# Altium schematic symbol library GSB4211311WEU.SchLib: 1 symbol
Pins are listed as number, name and electrical type; pins without a type are passive.

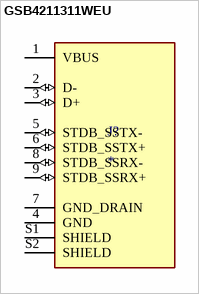
[diagram p0: symbol GSB4211311WEU]

## GSB4211311WEU
designator J?
USB 3.2 GEN 2, Type B, Receptacle, Right Angle Standard, 9 Pins, Shell Kink with Nickel Plating, 30Î¼in Gold, Dip 2.8mm, Blue Housing, Tray Packaging; MF: Amphenol; MP: GSB4211311WEU; SnapEDA_Link: https://www.snapeda.com/parts/GSB4211311WEU/Amphenol/view-part/?ref=snap; Package: None; Value: *; Check_prices: https://www.snapeda.com/parts/GSB4211311WEU/Amphenol/view-part/?ref=eda
footprint AMPHENOL_GSB4211311WEU
pins: 1 VBUS (power), 2 D- (io), 3 D+ (io), 4 GND (power), 5 STDB_SSTX- (io), 6 STDB_SSTX+ (io), 7 GND_DRAIN (power), 8 STDB_SSRX- (io), 9 STDB_SSRX+ (io), S1 SHIELD, S2 SHIELD